# Altium footprint library robot_eseo.PcbLib: 96 footprints (part 5 of 6)
Each footprint in its own frame and in the unit in brackets; x right, y up, seen from the top. Pads: shape width x height; smd on the part's side, far side on the other; paste and mask are expansions set on the pad; w line width, h text height; cw(c..) or ccw(c..) is an arc to the next point about the centre after c.
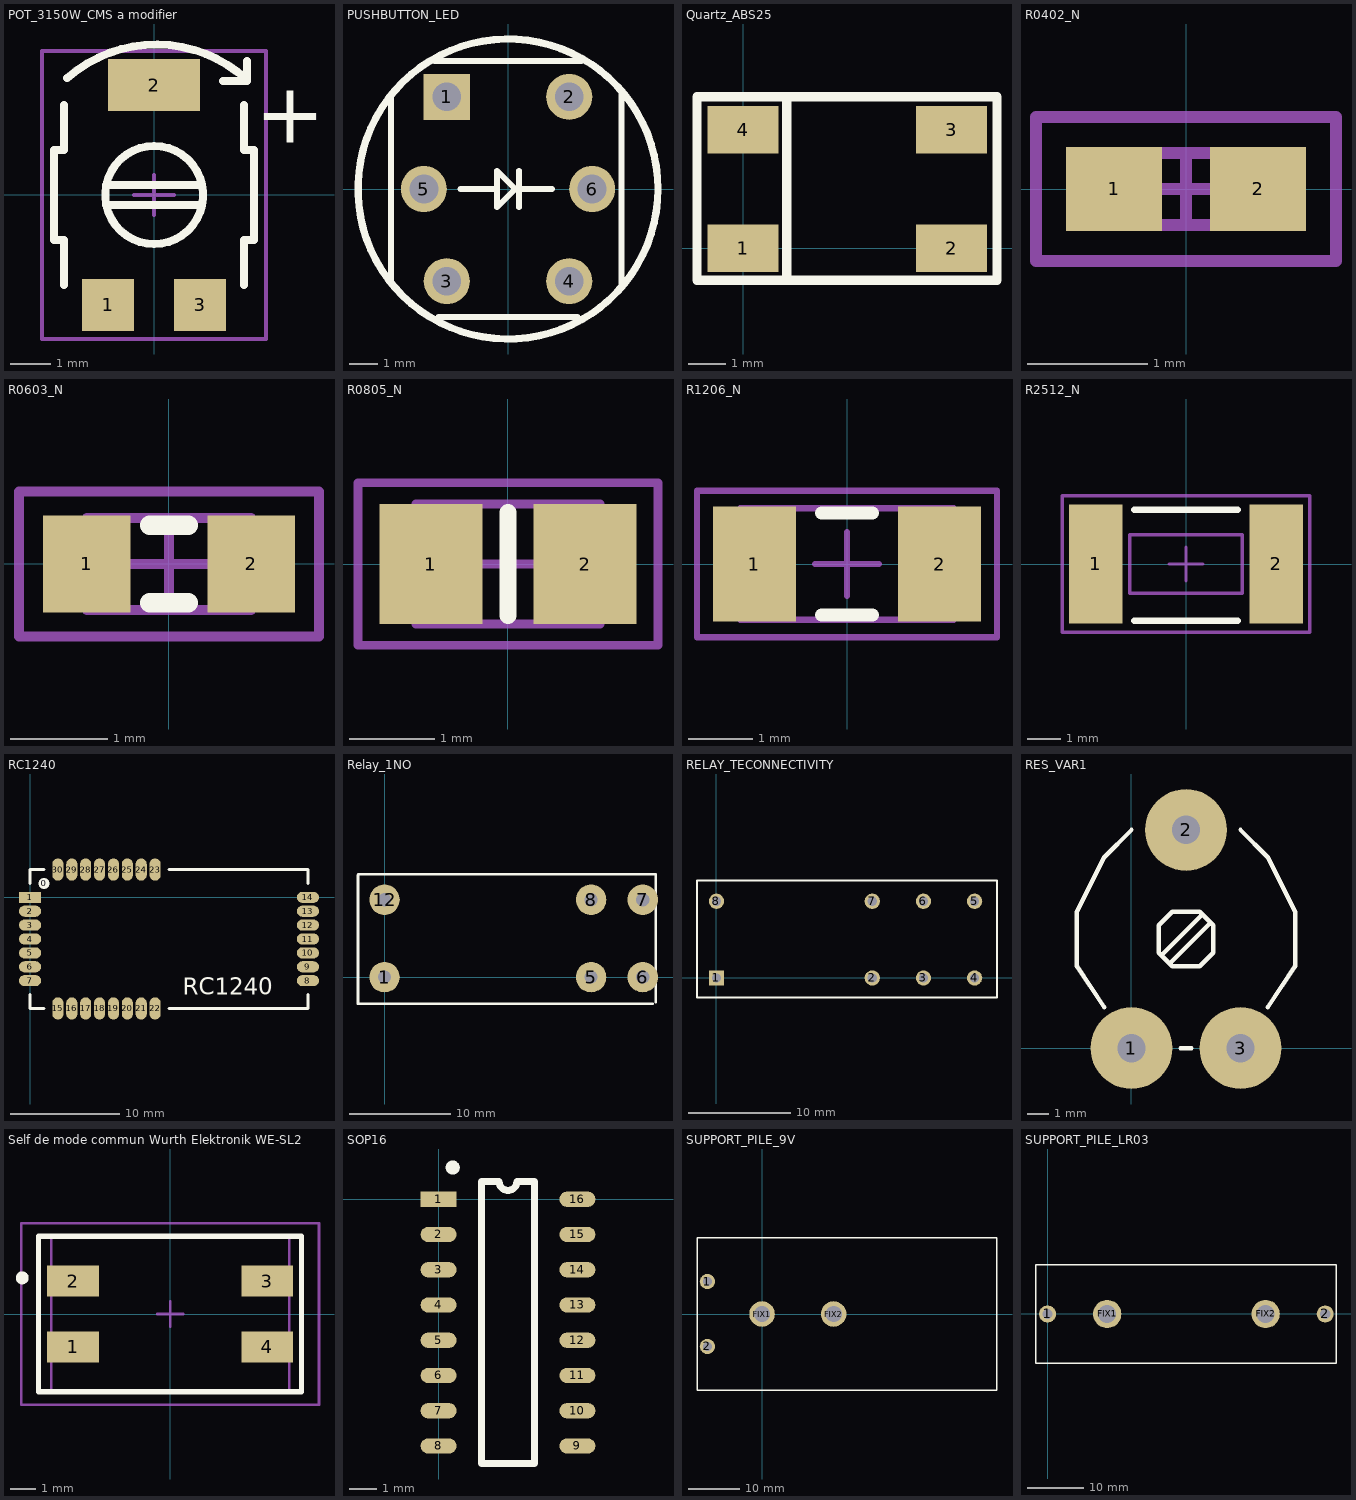
[diagram p4: the footprints below, top view; thin cyan lines are the x and y axes]

## POT_3150W_CMS a modifier [mm] "Trimmer CMS 3150W Tyco"
height 1.4
pads (3):
  rect 1.3x1.3 smd: 1(-1.15,-2.75) 3(1.15,-2.75)
  rect 2.3x1.3 smd: 2(0,2.75)
Top Overlay:
  lines w0.2: -2.25,-2.25 -2.25,-1.125 -2.5,-1.125 -2.5,1.125 -2.25,1.125 -2.25,2.25 ; -2.177,2.919 cw(c0.05,0.4) 2.322,2.879 ; 1.726,2.851 2.326,2.851 2.326,3.351 ; 2.25,-2.25 2.25,-1.125 2.5,-1.125 2.5,1.125 2.25,1.125 2.25,2.25 ; -1.198,-0.255 cw(c0,0) -1.198,0.255 ; -1.198,-0.255 ccw(c0,0) 1.198,-0.255 ; -1.198,-0.255 1.198,-0.255 ; -1.198,0.255 cw(c0,0) 1.198,0.255 ; -1.198,0.255 1.198,0.255 ; 1.198,-0.255 ccw(c0,0) 1.198,0.255
  text "+" at 2.53,1.31 h1.52
Mechanical 15:
  lines w0.1: -0.5,0 0.5,0 ; 0,-0.5 0,0.5 ; -2.8,-3.6 -2.8,3.6 2.8,3.6 2.8,-3.6 -2.8,-3.6
3D body "SW3dPS-Bourns 3314G potentiometer x1.STEP": height 2.55, standoff 0, extent -2.46,-3.1 2.54,3.1

## PUSHBUTTON_LED [mm]
height 5
pads (6):
  rect 1.6x1.6 hole 1: 1(-2.125,3.2)
  round 1.6 hole 1: 2(2.125,3.2) 3(-2.125,-3.2) 4(2.125,-3.2) 5(-2.921,0) 6(2.921,0)
Top Overlay:
  circle w0.254: c0,0 r5.207
  lines w0.2: -4.064,-3.175 -4.064,3.175 ; -2.54,4.445 2.54,4.445 ; -2.413,-4.445 2.413,-4.445 ; -1.651,0 -0.508,0 ; 0.381,-0.635 0.381,0.635 ; 0.381,0 1.524,0 ; 3.937,-3.302 3.937,3.302 3.937,3.048 ; -0.381,-0.635 0.254,0 -0.381,0.635 -0.381,-0.635
3D body "Fl�che.STEP": height 10.02, standoff -3.48, extent -5,-5 5,5

## Quartz_ABS25 [mil]
pads (4):
  rect 75x50 smd: 1(0,0) 2(220,0) 3(220,125) 4(0,125)
Top Overlay:
  lines w10: -48.75,159.97 -48.75,-34 268,-34 268,160 ; -48,160 267,160 ; 46.25,-34 46.25,159.97

## R0402_N [mm] "Chip Resistor, Body 1.1x0.5mm, IPC Medium Density"
height 0.4
pads (2):
  rect 0.8x0.7 smd: 1(-0.6,0) 2(0.6,0)
Mechanical 13:
  lines w0.1: -0.55,-0.3 0.55,-0.3 0.55,0.3 -0.55,0.3 -0.55,-0.3
Mechanical 15:
  lines w0.1: -0.3,0 0.3,0 ; 0,-0.3 0,0.3 ; -1.25,-0.6 1.25,-0.6 1.25,0.6 -1.25,0.6 -1.25,-0.6
3D body: height 0.4, standoff 0, extent -0.55,-0.3 0.55,0.3
3D body "R0402_2.step": height 0.27, standoff 0, extent -0.5,-0.25 0.5,0.252

## R0603_N [mm] "Chip Resistor, Body 1.6x0.8mm, IPC Medium Density"
height 0.6
pads (2):
  rect 0.9x1 smd: 1(-0.85,0) 2(0.85,0)
Top Overlay:
  lines w0.2: -0.2,-0.4 0.2,-0.4 ; -0.2,0.4 0.2,0.4
Mechanical 13:
  lines w0.1: -0.85,-0.475 0.85,-0.475 0.85,0.475 -0.85,0.475 -0.85,-0.475
Mechanical 15:
  lines w0.1: -0.475,0 0.475,0 ; 0,-0.475 0,0.475 ; -1.55,-0.75 1.55,-0.75 1.55,0.75 -1.55,0.75 -1.55,-0.75
3D body: height 0.6, standoff 0, extent -0.85,-0.475 0.85,0.475
3D body "R0603_2.step": height 0.37, standoff 0, extent -0.8,-0.402 0.8,0.4

## R0805_N [mm] "Chip Resistor, Body 2.0x1.3mm, IPC Medium Density"
height 0.65
pads (2):
  rect 1.2x1.4 smd: 1(-0.9,0) 2(0.9,0)
Top Overlay:
  lines w0.2: 0,-0.6 0,0.6
Mechanical 13:
  lines w0.1: -1.075,-0.7 -1.075,0.7 1.075,0.7 1.075,-0.7 -1.075,-0.7
Mechanical 15:
  lines w0.1: -0.5,0 0.5,0 ; 0,-0.5 0,0.5 ; -1.75,-0.95 -1.75,0.95 1.75,0.95 1.75,-0.95 -1.75,-0.95
3D body: height 0.65, standoff 0, extent -1.075,-0.7 1.075,0.7
3D body "R0805_2.step": height 0.47, standoff 0, extent -1,-0.627 1,0.625

## R1206_N [mm] "Chip Resistor, Body 3.2x1.6mm, IPC Medium Density"
height 0.71
pads (2):
  rect 1.3x1.8 smd: 1(-1.45,0) 2(1.45,0)
Top Overlay:
  lines w0.2: -0.4,-0.8 0.4,-0.8 ; -0.4,0.8 0.4,0.8
Mechanical 13:
  lines w0.1: -1.675,-0.875 -1.675,0.875 1.675,0.875 1.675,-0.875 -1.675,-0.875
Mechanical 15:
  lines w0.1: -0.5,0 0.5,0 ; 0,-0.5 0,0.5 ; -2.35,-1.15 -2.35,1.15 2.35,1.15 2.35,-1.15 -2.35,-1.15
3D body: height 0.71, standoff 0, extent -1.675,-0.875 1.675,0.875
3D body "R1206_2.step": height 0.47, standoff 0, extent -1.525,-0.777 1.575,0.775

## R2512_N [mil] "Chip Resistor, Body 3.2x1.6mm, IPC Medium Density"
height 27.95
pads (2):
  rect 63x140 smd: 1(-106,0) 2(106,0)
Top Overlay:
  lines w7.87: -60.75,-66.5 60.75,-66.5 ; -60.75,63.5 60.75,63.5
Mechanical 13:
  lines w3.94: -65.94,-34.45 -65.94,34.45 65.94,34.45 65.94,-34.45 -65.94,-34.45
Mechanical 15:
  lines w3.94: -19.68,0 19.69,0 ; 0,-19.68 0,19.69 ; -145,-80 -145,80 145,80 145,-80 -145,-80
3D body "User Library-R SMD 2512.STEP": height 24.51, standoff 0.89, extent -121.88,-62 126.14,62.01

## RC1240 [mil]
pads (31):
  round 40 on Top Overlay: 0(50,50)
  rect 80x40 smd: 1(0,0)
  oval 80x40 smd: 2(0,-50) 3(0,-100) 4(0,-150) 5(0,-200) 6(0,-250) 7(0,-300) 8(1000,-300) 9(1000,-250) 10(1000,-200) 11(1000,-150) 12(1000,-100) 13(1000,-50) 14(1000,0)
  oval 40x80 smd: 15(100,-400) 16(150,-400) 17(200,-400) 18(250,-400) 19(300,-400) 20(350,-400) 21(400,-400) 22(450,-400) 23(450,100) 24(400,100) 25(350,100) 26(300,100) 27(250,100) 28(200,100) 29(150,100) 30(100,100)
Top Overlay:
  lines w10: 0,-350 0,-400 50,-400 ; 0,50 0,100 50,100 ; 500,-400 1000,-400 1000,-350 ; 500,100 1000,100 1000,50
  text "RC1240" at 550,-350 h60
3D body "Radiocrafts_433MHz.STEP": height 138.19, standoff -0.16, extent -0.19,-400.19 1000.2,100.2

## Relay_1NO [mm] "HF115F-I/024-1H3AF(610)"
height 15.7
pads (6):
  round 3 hole 1.3: 1(0,0) 5(20.32,0) 6(25.4,0) 7(25.4,7.62) 8(20.32,7.62) 12(0,7.62)
Top Overlay:
  lines w0.254: -2.607,-2.6 -2.607,10.033 ; -2.6,-2.6 26.4,-2.6 ; -2.6,10.1 26.67,10.1 26.67,-2.473
3D body "Relais_HF115F-I.STEP": height 15.7, standoff -3.6, extent -2.413,-2.54 26.587,10.16

## RELAY_TECONNECTIVITY [mm] "OZ-SS-105LM1,200"
height 20.6
pads (8):
  rect 1.5x1.5 hole 0.9: 1(0,0)
  round 1.5 hole 0.9: 2(15.24,0) 3(20.24,0) 4(25.24,0) 5(25.24,7.5) 6(20.24,7.5) 7(15.24,7.5) 8(0,7.5)
Top Overlay:
  lines w0.2: -1.905,-1.905 -1.905,9.525 27.432,9.525 27.432,-1.905 -1.905,-1.905

## RES_VAR1 [mil] "Trimmer Monotour; 10.16mmx5.08mm"
height 236.22
pads (3):
  round 150 hole 52: 1(0,0) 2(100,400) 3(200,0)
Top Overlay:
  lines w8: -50,75 -100,150 -100,250 -50,350 0,400 ; 55,170 130,245 ; 70,155 145,230 ; 90,0 110,0 ; 200,400 250,350 300,250 300,150 250,75 ; 50,175 50,225 75,250 125,250 150,225 150,175 125,150 75,150 50,175
3D body "resistance variable noir.STEP": height 246.46, standoff -137.8, extent -102.36,-9.06 303.15,408.27

## Self de mode commun Wurth Elektronik WE-SL2 [mm] "Self de mode commun Wurth Elektronik WE-SL2"
height 5
pads (4):
  rect 2x1.2 smd: 1(-3.75,-1.27) 2(-3.75,1.27) 3(3.75,1.27) 4(3.75,-1.27)
Top Overlay:
  circle w0.25: c-5.713,1.397 r0.125
  lines w0.2: -5.08,-3 -5.08,3 5.08,3 5.08,-3 -5.08,-3
Mechanical 13:
  lines w0.1: -4.6,-3 -4.6,3 4.6,3 4.6,-3 -4.6,-3
Mechanical 15:
  lines w0.1: -0.5,0 0.5,0 ; 0,-0.5 0,0.5 ; -5.75,-3.5 -5.75,3.5 5.75,3.5 5.75,-3.5 -5.75,-3.5
3D body: height 5, standoff 0, extent -4.6,-3 4.6,3

## SOP16 [mm]
pads (16):
  rect 1.3x0.55 smd: 1(0,0)
  oval 1.3x0.55 smd: 2(0,-1.27) 3(0,-2.54) 4(0,-3.81) 5(0,-5.08) 6(0,-6.35) 7(0,-7.62) 8(0,-8.89) 9(5,-8.89) 10(5,-7.62) 11(5,-6.35) 12(5,-5.08) 13(5,-3.81) 14(5,-2.54) 15(5,-1.27) 16(5,0)
Top Overlay:
  circle w0.254: c0.508,1.143 r0.127
  lines w0.254: 1.539,-9.525 1.539,0.635 2.183,0.635 ccw(c2.5,0.635) 2.818,0.635 3.461,0.635 3.461,-9.525 1.539,-9.525

## SUPPORT_PILE_9V [mm] "AA SIZE BATTERY HOLDER; Open style; Pin Spacing Fix=14mm; Pin Spacing=12.7mm"
height 25.2
pads (4):
  round 3 hole 1.8: 1(-10.7,6.35) 2(-10.7,-6.35)
  round 5 hole 3.2: FIX1(0,0) FIX2(14,0)
Top Overlay:
  lines w0.254: 45.942,-14.9 -12.732,-14.9 -12.732,14.9 45.968,14.9 45.968,-14.9

## SUPPORT_PILE_LR03 [mm] "AAA SIZE BATTERY HOLDER; Open style; Pin Spacing Fix=27.9mm; Pin Spacing=48.9mm"
height 17.1
pads (4):
  round 3 hole 1.8: 1(0,0) 2(48.9,0)
  round 5 hole 3.2: FIX1(10.5,0) FIX2(38.4,0)
Top Overlay:
  lines w0.254: -2.032,-8.65 50.8,-8.65 50.8,8.65 -2.032,8.65 -2.032,-8.636